# Altium schematic symbol library MC68HC908QY4A.SchLib: 1 symbol
Pins are listed as number, name and electrical type; pins without a type are passive.

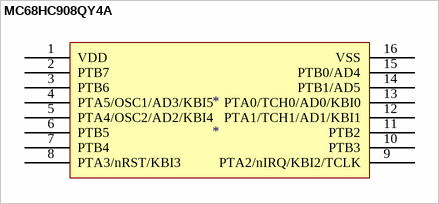
[diagram p0: symbol MC68HC908QY4A]

## MC68HC908QY4A
designator *
HC08 Microcontroller IC 8-Bit 8MHz 4KB (4K x 8) FLASH 16-PDIP
footprint PDIP16
pins: 1 VDD, 2 PTB7, 3 PTB6, 4 PTA5/OSC1/AD3/KBI5, 5 PTA4/OSC2/AD2/KBI4, 6 PTB5, 7 PTB4, 8 PTA3/nRST/KBI3, 9 PTA2/nIRQ/KBI2/TCLK, 10 PTB3, 11 PTB2, 12 PTA1/TCH1/AD1/KBI1, 13 PTA0/TCH0/AD0/KBI0, 14 PTB1/AD5, 15 PTB0/AD4, 16 VSS